# Altium schematic symbol library Transformer.SchLib: 3 symbols
Pins are listed as number, name and electrical type; pins without a type are passive.

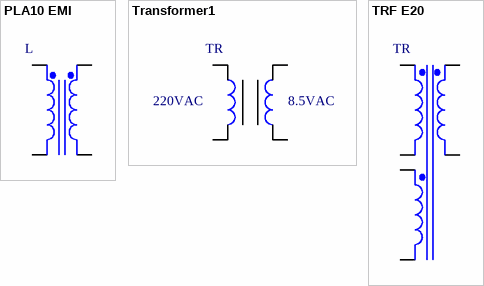
[diagram p0: symbols PLA10 EMI to TRF E20]

## PLA10 EMI
designator L  (value not drawn)
footprint PLA10 EMI (Footprint not found)
pins: 1 Pri+, 2 Sec+, 3 Sec-, 4 Pri-

## Transformer1
designator TR  Output: 8.5VAC  Input: 220VAC  (hidden comment: *)
Value: Transformer
pins: 1, 2, 3, 4

## TRF E20
designator TR  (value not drawn)
footprint TRF E20 (Footprint not found)
pins: 1 Pri1+, 2 Pri1-, 3 Pri2+, 4 Pri2+, 5 Sec1+, 7 Sec1-